# Altium footprint library LED_THT.PcbLib: 81 footprints (part 1 of 6)
Each footprint in its own frame and in the unit in brackets; x right, y up, seen from the top. Pads: shape width x height; smd on the part's side, far side on the other; paste and mask are expansions set on the pad; w line width, h text height; cw(c..) or ccw(c..) is an arc to the next point about the centre after c.
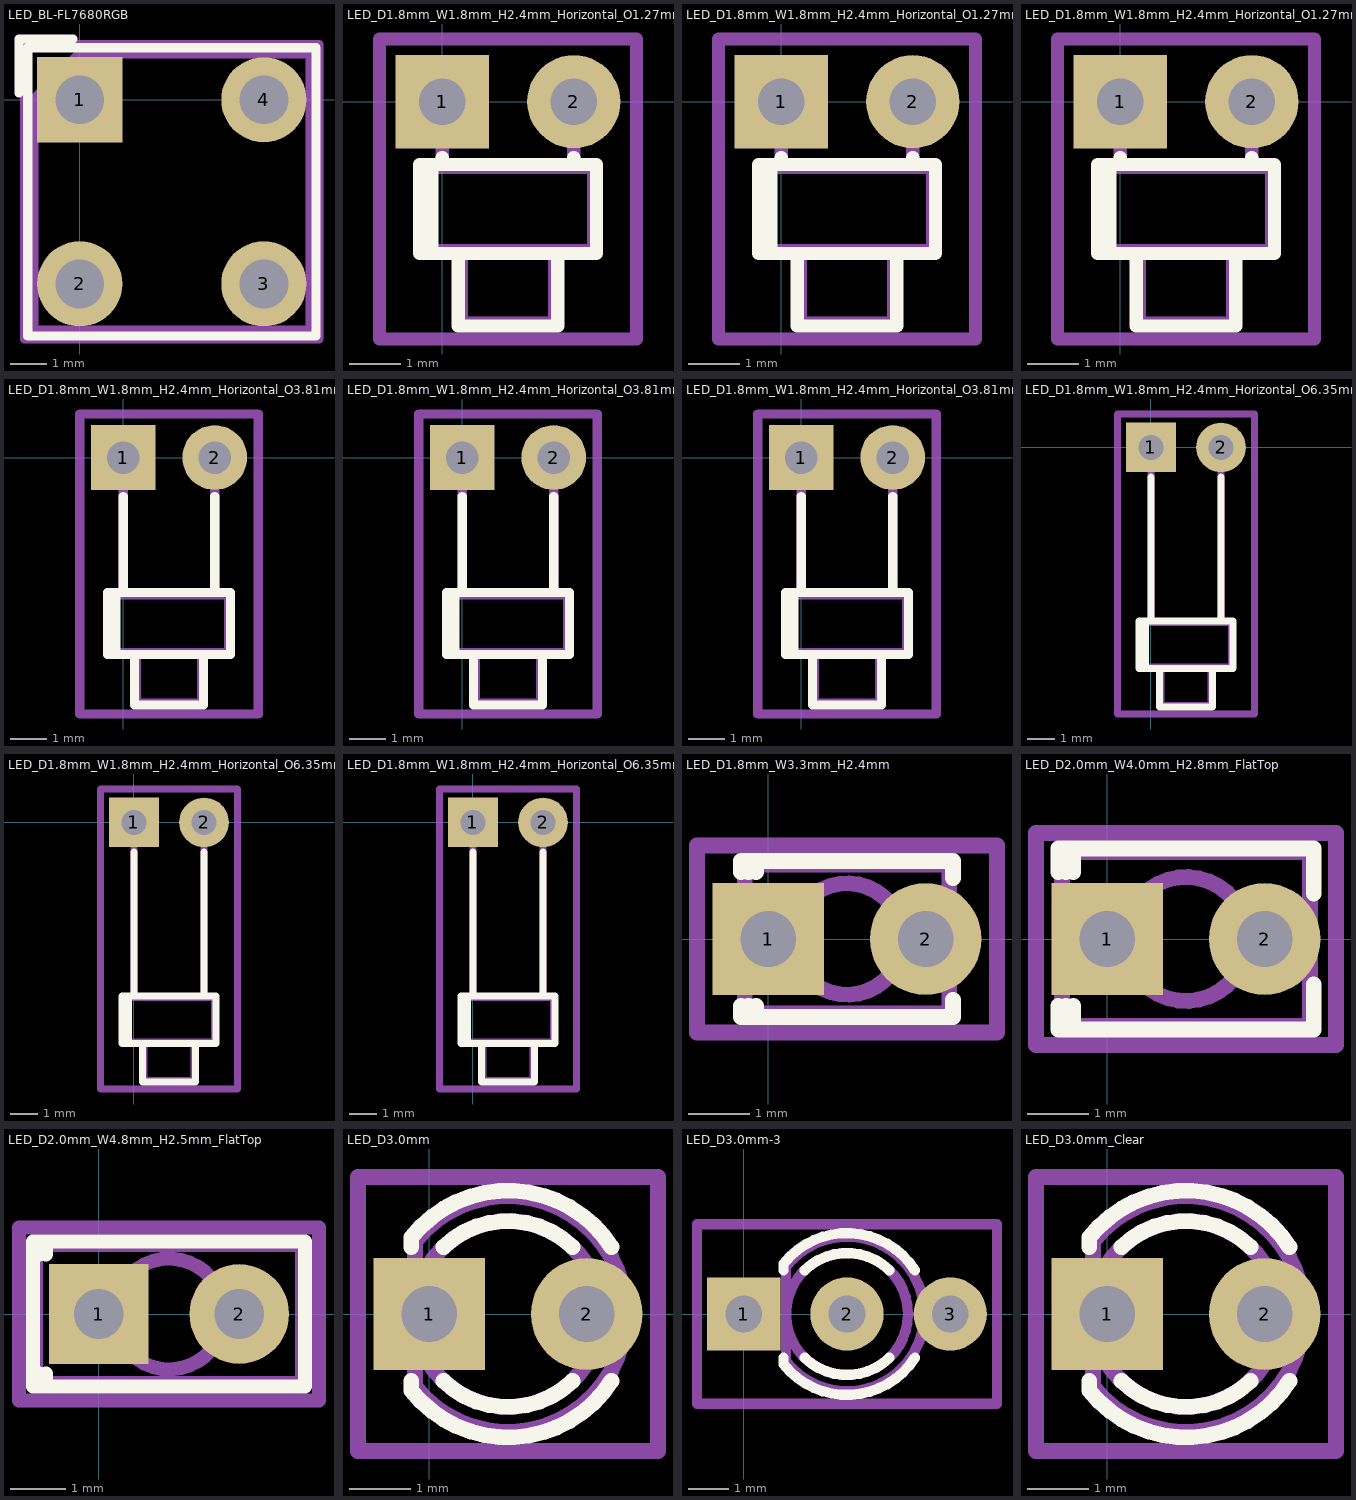
[diagram p0: the footprints below, top view; thin cyan lines are the x and y axes]

## LED_BL-FL7680RGB [mm]
pads (4):
  rect 2.35x2.35 hole 1.35: 1(0,0)
  round 2.35 hole 1.35: 2(0,-5.08) 3(5.08,-5.08) 4(5.08,0)
F.SilkS:
  lines w0.254: -1.675,0.185 -1.675,1.675 -0.185,1.675 ; -1.435,-6.515 -1.435,1.435 6.515,1.435 6.515,-6.515 -1.435,-6.515
Top Assembly:
  lines w0.254: -1.27,-6.35 -1.27,0.02 -0.02,1.27 6.35,1.27 6.35,-6.35 -1.27,-6.35
  text "'.Designator'" at -1.507,-3.38 h1
Top Courtyard:
  lines w0.254: -1.52,-6.6 -1.52,1.52 6.6,1.52 6.6,-6.6 -1.52,-6.6
Top Designator:
  text ".Designator" at -5.155,-2.97 h1.52

## LED_D1.8mm_W1.8mm_H2.4mm_Horizontal_O1.27mm_Z1.6mm [mm]
pads (2):
  rect 1.8x1.8 hole 0.9: 1(0,0)
  round 1.8 hole 0.9: 2(2.54,0)
F.SilkS:
  lines w0.254: -0.32,-2.93 -0.32,-1.21 ; -0.2,-2.93 -0.2,-1.21 ; -0.44,-2.93 2.98,-2.93 2.98,-1.21 -0.44,-1.21 -0.44,-2.93 ; 0,-1.21 0,-1.08 0,-1.21 ; 0.31,-4.33 2.23,-4.33 2.23,-2.93 0.31,-2.93 0.31,-4.33 ; 2.54,-1.21 2.54,-1.08 2.54,-1.21
Top Assembly:
  lines w0.254: -0.38,-2.87 2.92,-2.87 2.92,-1.27 -0.38,-1.27 -0.38,-2.87 ; 0,-1.27 0,0 0,-1.27 ; 0.37,-4.27 2.17,-4.27 2.17,-2.87 0.37,-2.87 0.37,-4.27 ; 2.54,-1.27 2.54,0 2.54,-1.27
  text "'.Designator'" at -1.967,-2.642 h0.8
Top Courtyard:
  lines w0.254: -1.21,-4.58 3.75,-4.58 3.75,1.21 -1.21,1.21 -1.21,-4.58
Top Designator:
  text ".Designator" at -6.468,-2.193 h1.52

## LED_D1.8mm_W1.8mm_H2.4mm_Horizontal_O1.27mm_Z4.9mm [mm]
pads (2):
  rect 1.8x1.8 hole 0.9: 1(0,0)
  round 1.8 hole 0.9: 2(2.54,0)
F.SilkS:
  lines w0.254: -0.32,-2.93 -0.32,-1.21 ; -0.2,-2.93 -0.2,-1.21 ; -0.44,-2.93 2.98,-2.93 2.98,-1.21 -0.44,-1.21 -0.44,-2.93 ; 0,-1.21 0,-1.08 0,-1.21 ; 0.31,-4.33 2.23,-4.33 2.23,-2.93 0.31,-2.93 0.31,-4.33 ; 2.54,-1.21 2.54,-1.08 2.54,-1.21
Top Assembly:
  lines w0.254: -0.38,-2.87 2.92,-2.87 2.92,-1.27 -0.38,-1.27 -0.38,-2.87 ; 0,-1.27 0,0 0,-1.27 ; 0.37,-4.27 2.17,-4.27 2.17,-2.87 0.37,-2.87 0.37,-4.27 ; 2.54,-1.27 2.54,0 2.54,-1.27
  text "'.Designator'" at -1.967,-2.642 h0.8
Top Courtyard:
  lines w0.254: -1.21,-4.58 3.75,-4.58 3.75,1.21 -1.21,1.21 -1.21,-4.58
Top Designator:
  text ".Designator" at -6.468,-2.193 h1.52

## LED_D1.8mm_W1.8mm_H2.4mm_Horizontal_O1.27mm_Z8.2mm [mm]
pads (2):
  rect 1.8x1.8 hole 0.9: 1(0,0)
  round 1.8 hole 0.9: 2(2.54,0)
F.SilkS:
  lines w0.254: -0.32,-2.93 -0.32,-1.21 ; -0.2,-2.93 -0.2,-1.21 ; -0.44,-2.93 2.98,-2.93 2.98,-1.21 -0.44,-1.21 -0.44,-2.93 ; 0,-1.21 0,-1.08 0,-1.21 ; 0.31,-4.33 2.23,-4.33 2.23,-2.93 0.31,-2.93 0.31,-4.33 ; 2.54,-1.21 2.54,-1.08 2.54,-1.21
Top Assembly:
  lines w0.254: -0.38,-2.87 2.92,-2.87 2.92,-1.27 -0.38,-1.27 -0.38,-2.87 ; 0,-1.27 0,0 0,-1.27 ; 0.37,-4.27 2.17,-4.27 2.17,-2.87 0.37,-2.87 0.37,-4.27 ; 2.54,-1.27 2.54,0 2.54,-1.27
  text "'.Designator'" at -1.967,-2.642 h0.8
Top Courtyard:
  lines w0.254: -1.21,-4.58 3.75,-4.58 3.75,1.21 -1.21,1.21 -1.21,-4.58
Top Designator:
  text ".Designator" at -6.468,-2.193 h1.52

## LED_D1.8mm_W1.8mm_H2.4mm_Horizontal_O3.81mm_Z1.6mm [mm]
pads (2):
  rect 1.8x1.8 hole 0.9: 1(0,0)
  round 1.8 hole 0.9: 2(2.54,0)
F.SilkS:
  lines w0.254: -0.32,-5.47 -0.32,-3.75 ; -0.2,-5.47 -0.2,-3.75 ; -0.44,-5.47 2.98,-5.47 2.98,-3.75 -0.44,-3.75 -0.44,-5.47 ; 0,-3.75 0,-1.08 0,-3.75 ; 0.31,-6.87 2.23,-6.87 2.23,-5.47 0.31,-5.47 0.31,-6.87 ; 2.54,-3.75 2.54,-1.08 2.54,-3.75
Top Assembly:
  lines w0.254: -0.38,-5.41 2.92,-5.41 2.92,-3.81 -0.38,-3.81 -0.38,-5.41 ; 0,-3.81 0,0 0,-3.81 ; 0.37,-6.81 2.17,-6.81 2.17,-5.41 0.37,-5.41 0.37,-6.81 ; 2.54,-3.81 2.54,0 2.54,-3.81
  text "'.Designator'" at -1.967,-5.182 h0.8
Top Courtyard:
  lines w0.254: -1.21,-7.12 3.75,-7.12 3.75,1.21 -1.21,1.21 -1.21,-7.12
Top Designator:
  text ".Designator" at -6.468,-3.463 h1.52

## LED_D1.8mm_W1.8mm_H2.4mm_Horizontal_O3.81mm_Z4.9mm [mm]
pads (2):
  rect 1.8x1.8 hole 0.9: 1(0,0)
  round 1.8 hole 0.9: 2(2.54,0)
F.SilkS:
  lines w0.254: -0.32,-5.47 -0.32,-3.75 ; -0.2,-5.47 -0.2,-3.75 ; -0.44,-5.47 2.98,-5.47 2.98,-3.75 -0.44,-3.75 -0.44,-5.47 ; 0,-3.75 0,-1.08 0,-3.75 ; 0.31,-6.87 2.23,-6.87 2.23,-5.47 0.31,-5.47 0.31,-6.87 ; 2.54,-3.75 2.54,-1.08 2.54,-3.75
Top Assembly:
  lines w0.254: -0.38,-5.41 2.92,-5.41 2.92,-3.81 -0.38,-3.81 -0.38,-5.41 ; 0,-3.81 0,0 0,-3.81 ; 0.37,-6.81 2.17,-6.81 2.17,-5.41 0.37,-5.41 0.37,-6.81 ; 2.54,-3.81 2.54,0 2.54,-3.81
  text "'.Designator'" at -1.967,-5.182 h0.8
Top Courtyard:
  lines w0.254: -1.21,-7.12 3.75,-7.12 3.75,1.21 -1.21,1.21 -1.21,-7.12
Top Designator:
  text ".Designator" at -6.468,-3.463 h1.52

## LED_D1.8mm_W1.8mm_H2.4mm_Horizontal_O3.81mm_Z8.2mm [mm]
pads (2):
  rect 1.8x1.8 hole 0.9: 1(0,0)
  round 1.8 hole 0.9: 2(2.54,0)
F.SilkS:
  lines w0.254: -0.32,-5.47 -0.32,-3.75 ; -0.2,-5.47 -0.2,-3.75 ; -0.44,-5.47 2.98,-5.47 2.98,-3.75 -0.44,-3.75 -0.44,-5.47 ; 0,-3.75 0,-1.08 0,-3.75 ; 0.31,-6.87 2.23,-6.87 2.23,-5.47 0.31,-5.47 0.31,-6.87 ; 2.54,-3.75 2.54,-1.08 2.54,-3.75
Top Assembly:
  lines w0.254: -0.38,-5.41 2.92,-5.41 2.92,-3.81 -0.38,-3.81 -0.38,-5.41 ; 0,-3.81 0,0 0,-3.81 ; 0.37,-6.81 2.17,-6.81 2.17,-5.41 0.37,-5.41 0.37,-6.81 ; 2.54,-3.81 2.54,0 2.54,-3.81
  text "'.Designator'" at -1.967,-5.182 h0.8
Top Courtyard:
  lines w0.254: -1.21,-7.12 3.75,-7.12 3.75,1.21 -1.21,1.21 -1.21,-7.12
Top Designator:
  text ".Designator" at -6.468,-3.463 h1.52

## LED_D1.8mm_W1.8mm_H2.4mm_Horizontal_O6.35mm_Z1.6mm [mm]
pads (2):
  rect 1.8x1.8 hole 0.9: 1(0,0)
  round 1.8 hole 0.9: 2(2.54,0)
F.SilkS:
  lines w0.254: -0.32,-8.01 -0.32,-6.29 ; -0.2,-8.01 -0.2,-6.29 ; -0.44,-8.01 2.98,-8.01 2.98,-6.29 -0.44,-6.29 -0.44,-8.01 ; 0,-6.29 0,-1.08 0,-6.29 ; 0.31,-9.41 2.23,-9.41 2.23,-8.01 0.31,-8.01 0.31,-9.41 ; 2.54,-6.29 2.54,-1.08 2.54,-6.29
Top Assembly:
  lines w0.254: -0.38,-7.95 2.92,-7.95 2.92,-6.35 -0.38,-6.35 -0.38,-7.95 ; 0,-6.35 0,0 0,-6.35 ; 0.37,-9.35 2.17,-9.35 2.17,-7.95 0.37,-7.95 0.37,-9.35 ; 2.54,-6.35 2.54,0 2.54,-6.35
  text "'.Designator'" at -1.967,-7.722 h0.8
Top Courtyard:
  lines w0.254: -1.21,-9.66 3.75,-9.66 3.75,1.21 -1.21,1.21 -1.21,-9.66
Top Designator:
  text ".Designator" at -6.468,-4.733 h1.52

## LED_D1.8mm_W1.8mm_H2.4mm_Horizontal_O6.35mm_Z4.9mm [mm]
pads (2):
  rect 1.8x1.8 hole 0.9: 1(0,0)
  round 1.8 hole 0.9: 2(2.54,0)
F.SilkS:
  lines w0.254: -0.32,-8.01 -0.32,-6.29 ; -0.2,-8.01 -0.2,-6.29 ; -0.44,-8.01 2.98,-8.01 2.98,-6.29 -0.44,-6.29 -0.44,-8.01 ; 0,-6.29 0,-1.08 0,-6.29 ; 0.31,-9.41 2.23,-9.41 2.23,-8.01 0.31,-8.01 0.31,-9.41 ; 2.54,-6.29 2.54,-1.08 2.54,-6.29
Top Assembly:
  lines w0.254: -0.38,-7.95 2.92,-7.95 2.92,-6.35 -0.38,-6.35 -0.38,-7.95 ; 0,-6.35 0,0 0,-6.35 ; 0.37,-9.35 2.17,-9.35 2.17,-7.95 0.37,-7.95 0.37,-9.35 ; 2.54,-6.35 2.54,0 2.54,-6.35
  text "'.Designator'" at -1.967,-7.722 h0.8
Top Courtyard:
  lines w0.254: -1.21,-9.66 3.75,-9.66 3.75,1.21 -1.21,1.21 -1.21,-9.66
Top Designator:
  text ".Designator" at -6.468,-4.733 h1.52

## LED_D1.8mm_W1.8mm_H2.4mm_Horizontal_O6.35mm_Z8.2mm [mm]
pads (2):
  rect 1.8x1.8 hole 0.9: 1(0,0)
  round 1.8 hole 0.9: 2(2.54,0)
F.SilkS:
  lines w0.254: -0.32,-8.01 -0.32,-6.29 ; -0.2,-8.01 -0.2,-6.29 ; -0.44,-8.01 2.98,-8.01 2.98,-6.29 -0.44,-6.29 -0.44,-8.01 ; 0,-6.29 0,-1.08 0,-6.29 ; 0.31,-9.41 2.23,-9.41 2.23,-8.01 0.31,-8.01 0.31,-9.41 ; 2.54,-6.29 2.54,-1.08 2.54,-6.29
Top Assembly:
  lines w0.254: -0.38,-7.95 2.92,-7.95 2.92,-6.35 -0.38,-6.35 -0.38,-7.95 ; 0,-6.35 0,0 0,-6.35 ; 0.37,-9.35 2.17,-9.35 2.17,-7.95 0.37,-7.95 0.37,-9.35 ; 2.54,-6.35 2.54,0 2.54,-6.35
  text "'.Designator'" at -1.967,-7.722 h0.8
Top Courtyard:
  lines w0.254: -1.21,-9.66 3.75,-9.66 3.75,1.21 -1.21,1.21 -1.21,-9.66
Top Designator:
  text ".Designator" at -6.468,-4.733 h1.52

## LED_D1.8mm_W3.3mm_H2.4mm [mm]
pads (2):
  rect 1.8x1.8 hole 0.9: 1(0,0)
  round 1.8 hole 0.9: 2(2.54,0)
F.SilkS:
  lines w0.254: -0.44,-1.08 -0.44,-1.26 2.98,-1.26 2.98,-0.986 ; -0.44,1.08 -0.44,1.26 2.98,1.26 2.98,0.986 ; -0.32,-1.26 -0.32,-1.08 ; -0.32,1.08 -0.32,1.26 ; -0.2,-1.26 -0.2,-1.08 ; -0.2,1.08 -0.2,1.26
Top Assembly:
  circle w0.254: c1.27,0 r0.9
  lines w0.254: -0.38,-1.2 2.92,-1.2 2.92,1.2 -0.38,1.2 -0.38,-1.2
  text "'.Designator'" at -1.967,-0.672 h0.8
Top Courtyard:
  lines w0.254: -1.15,-1.51 3.69,-1.51 3.69,1.51 -1.15,1.51 -1.15,-1.51
Top Designator:
  text ".Designator" at -6.468,-0.508 h1.52

## LED_D2.0mm_W4.0mm_H2.8mm_FlatTop [mm]
pads (2):
  rect 1.8x1.8 hole 0.9: 1(0,0)
  round 1.8 hole 0.9: 2(2.54,0)
F.SilkS:
  lines w0.254: -0.79,-1.08 -0.79,-1.46 3.33,-1.46 3.33,-0.736 ; -0.79,1.08 -0.79,1.46 3.33,1.46 3.33,0.736 ; -0.67,-1.46 -0.67,-1.08 ; -0.67,1.08 -0.67,1.46 ; -0.55,-1.46 -0.55,-1.08 ; -0.55,1.08 -0.55,1.46
Top Assembly:
  circle w0.254: c1.27,0 r1
  lines w0.254: -0.73,-1.4 3.27,-1.4 3.27,1.4 -0.73,1.4 -0.73,-1.4
  text "'.Designator'" at -1.967,-0.672 h0.8
Top Courtyard:
  lines w0.254: -1.15,-1.71 3.69,-1.71 3.69,1.71 -1.15,1.71 -1.15,-1.71
Top Designator:
  text ".Designator" at -6.468,-0.508 h1.52

## LED_D2.0mm_W4.8mm_H2.5mm_FlatTop [mm]
pads (2):
  rect 1.8x1.8 hole 0.9: 1(0,0)
  round 1.8 hole 0.9: 2(2.54,0)
F.SilkS:
  lines w0.254: -1.07,-1.31 -1.07,-1.08 ; -1.07,1.08 -1.07,1.31 ; -0.95,-1.31 -0.95,-1.08 ; -0.95,1.08 -0.95,1.31 ; -1.19,-1.31 3.73,-1.31 3.73,1.31 -1.19,1.31 -1.19,-1.31
Top Assembly:
  circle w0.254: c1.27,0 r1
  lines w0.254: -1.13,-1.25 3.67,-1.25 3.67,1.25 -1.13,1.25 -1.13,-1.25
  text "'.Designator'" at -1.967,-0.672 h0.8
Top Courtyard:
  lines w0.254: -1.44,-1.56 3.98,-1.56 3.98,1.56 -1.44,1.56 -1.44,-1.56
Top Designator:
  text ".Designator" at -6.468,-0.508 h1.52

## LED_D3.0mm [mm]
pads (2):
  rect 1.8x1.8 hole 0.9: 1(0,0)
  round 1.8 hole 0.9: 2(2.54,0)
F.SilkS:
  lines w0.254: -0.29,-1.08 -0.29,-1.236 ccw(c1.27,0) 2.941,-1.08 ; -0.29,1.08 -0.29,1.236 cw(c1.27,0) 2.941,1.08 ; 0.229,-1.08 ccw(c1.27,0) 2.311,-1.08 ; 0.229,1.08 cw(c1.27,0) 2.311,1.08
Top Assembly:
  circle w0.254: c1.27,0 r1.5
  lines w0.254: -0.23,-1.166 ccw(c1.27,0) -0.23,1.166 -0.23,-1.166
  text "'.Designator'" at -1.967,-0.672 h0.8
Top Courtyard:
  lines w0.254: -1.15,-2.21 3.69,-2.21 3.69,2.21 -1.15,2.21 -1.15,-2.21
Top Designator:
  text ".Designator" at -6.468,-0.508 h1.52

## LED_D3.0mm-3 [mm]
pads (3):
  rect 1.8x1.8 hole 0.9: 1(0,0)
  round 1.8 hole 0.9: 2(2.54,0) 3(5.08,0)
F.SilkS:
  lines w0.254: 0.98,-1.08 0.98,-1.236 ccw(c2.54,0) 4.211,-1.08 ; 0.98,1.08 0.98,1.236 cw(c2.54,0) 4.211,1.08 ; 1.499,-1.08 ccw(c2.54,0) 3.581,-1.08 ; 1.499,1.08 cw(c2.54,0) 3.581,1.08
Top Assembly:
  circle w0.254: c2.54,0 r1.5
  lines w0.254: 1.04,-1.166 ccw(c2.54,0) 1.04,1.166 1.04,-1.166
  text "'.Designator'" at -0.697,-0.672 h0.8
Top Courtyard:
  lines w0.254: -1.15,-2.21 6.23,-2.21 6.23,2.21 -1.15,2.21 -1.15,-2.21
Top Designator:
  text ".Designator" at -5.078,-0.508 h1.52

## LED_D3.0mm_Clear [mm]
pads (2):
  rect 1.8x1.8 hole 0.9: 1(0,0)
  round 1.8 hole 0.9: 2(2.54,0)
F.SilkS:
  lines w0.254: -0.29,-1.08 -0.29,-1.236 ccw(c1.27,0) 2.941,-1.08 ; -0.29,1.08 -0.29,1.236 cw(c1.27,0) 2.941,1.08 ; 0.229,-1.08 ccw(c1.27,0) 2.311,-1.08 ; 0.229,1.08 cw(c1.27,0) 2.311,1.08
Top Assembly:
  circle w0.254: c1.27,0 r1.5
  lines w0.254: -0.23,-1.166 ccw(c1.27,0) -0.23,1.166 -0.23,-1.166
  text "'.Designator'" at -1.967,-0.672 h0.8
Top Courtyard:
  lines w0.254: -1.15,-2.21 3.69,-2.21 3.69,2.21 -1.15,2.21 -1.15,-2.21
Top Designator:
  text ".Designator" at -6.468,-0.508 h1.52